# EAGLE library part 29PAD-AP03 (library 29PAD-ta)
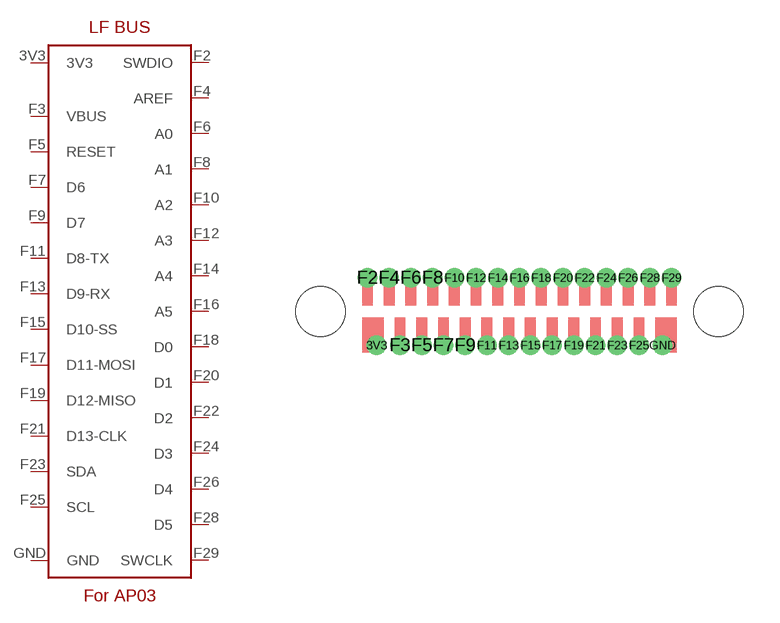
[diagram p2: symbol with the pads of 29PAD; footprint 29PAD]

Designator prefix -

## 29PAD-AP03  [29PAD]
3V3  3V3
F2  F02
F3  F03
F4  F04
F5  F05
F6  F06
F7  F07
F8  F08
F9  F09
F10  F10
F11  F11
F12  F12
F13  F13
F14  F14
F15  F15
F16  F16
F17  F17
F18  F18
F19  F19
F20  F20
F21  F21
F22  F22
F23  F23
F24  F24
F25  F25
F26  F26
F28  F28
F29  F29
GND  GND

## Footprint 29PAD (pad centres in mm)
drill 0.3 pad 0.356: 3V3 -5.925,-1.4; F2 -6.3,1.4; F3 -4.95,-1.4; F4 -5.4,1.4; F5 -4.05,-1.4; F6 -4.5,1.4; F7 -3.15,-1.4; F8 -3.6,1.4; F9 -2.25,-1.4; F10 -2.7,1.4; F11 -1.35,-1.4; F12 -1.8,1.4; F13 -0.45,-1.4; F14 -0.9,1.4; F15 0.45,-1.4; F16 0,1.4; F17 1.35,-1.4; F18 0.9,1.4; F19 2.25,-1.4; F20 1.8,1.4; F21 3.15,-1.4; F22 2.7,1.4; F23 4.05,-1.4; F24 3.6,1.4; F25 4.95,-1.4; F26 4.5,1.4; F28 5.4,1.4; F29 6.3,1.4; GND 5.925,-1.4
hole 2.05 at -8.25,0
hole 2.05 at 8.25,0